# EAGLE library part FATFAN_GROUP (library coils)
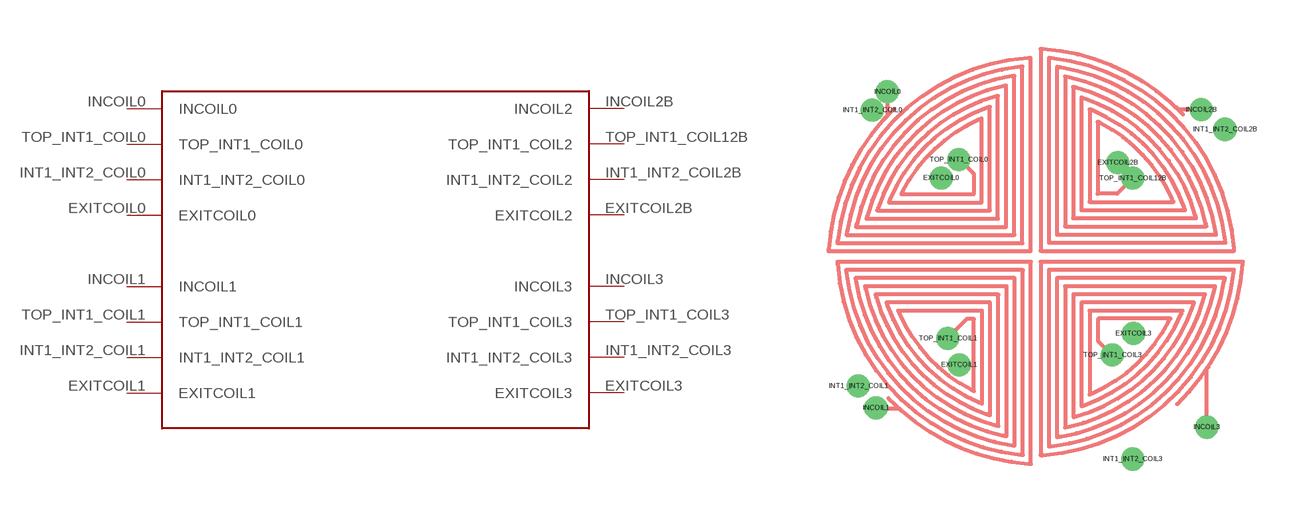
[diagram p2: symbol with the pads of FAT_FAN; footprint FAT_FAN]

Designator prefix -

## FATFAN_GROUP  [FAT_FAN]
EXITCOIL0  EXITCOIL0
EXITCOIL1  EXITCOIL1
EXITCOIL2B  EXITCOIL2
EXITCOIL3  EXITCOIL3
INCOIL0  INCOIL0
INCOIL1  INCOIL1
INCOIL2B  INCOIL2
INCOIL3  INCOIL3
INT1_INT2_COIL0  INT1_INT2_COIL0
INT1_INT2_COIL1  INT1_INT2_COIL1
INT1_INT2_COIL2B  INT1_INT2_COIL2
INT1_INT2_COIL3  INT1_INT2_COIL3
TOP_INT1_COIL0  TOP_INT1_COIL0
TOP_INT1_COIL1  TOP_INT1_COIL1
TOP_INT1_COIL3  TOP_INT1_COIL3
TOP_INT1_COIL12B  TOP_INT1_COIL2

## Footprint FAT_FAN (pad centres in mm)
drill 0.2 pad 0.305: EXITCOIL0 -2.86,2.42; EXITCOIL1 -2.31,-3.31; EXITCOIL2B 2.55,2.89; EXITCOIL3 3.03,-2.35; INCOIL0 -4.51,5.06; INCOIL1 -4.86,-4.63; INCOIL2B 5.1,4.51; INCOIL3 5.27,-5.22; INT1_INT2_COIL0 -4.97,4.5; INT1_INT2_COIL1 -5.4,-3.96; INT1_INT2_COIL2B 5.83,3.91; INT1_INT2_COIL3 3,-6.2; TOP_INT1_COIL0 -2.33,2.98; TOP_INT1_COIL1 -2.66,-2.5; TOP_INT1_COIL3 2.38,-3.01; TOP_INT1_COIL12B 3,2.41